# EAGLE library part HTS221-TEMP-HUM (library Sensors)
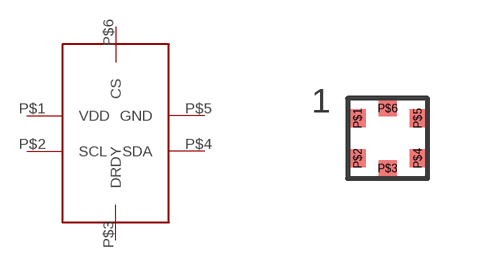
[diagram p1: symbol with the pads of HLGA-6L; footprint HLGA-6L]

Designator prefix -

## HTS221-TEMP-HUM  [HLGA-6L]
P$1  VDD
P$2  SCL
P$3  DRDY
P$4  SDA
P$5  GND
P$6  CS

## Footprint HLGA-6L (pad centres in mm)
smd 0.4 x 0.45: P$1 -0.75,0.5; P$2 -0.75,-0.5; P$4 0.75,-0.5; P$5 0.75,0.5
smd 0.45 x 0.4: P$3 0,-0.75; P$6 0,0.75